# Altium footprint library LV_module.PcbLib: 20 footprints (part 1 of 2)
Each footprint in its own frame and in the unit in brackets; x right, y up, seen from the top. Pads: shape width x height; smd on the part's side, far side on the other; paste and mask are expansions set on the pad; w line width, h text height; cw(c..) or ccw(c..) is an arc to the next point about the centre after c.
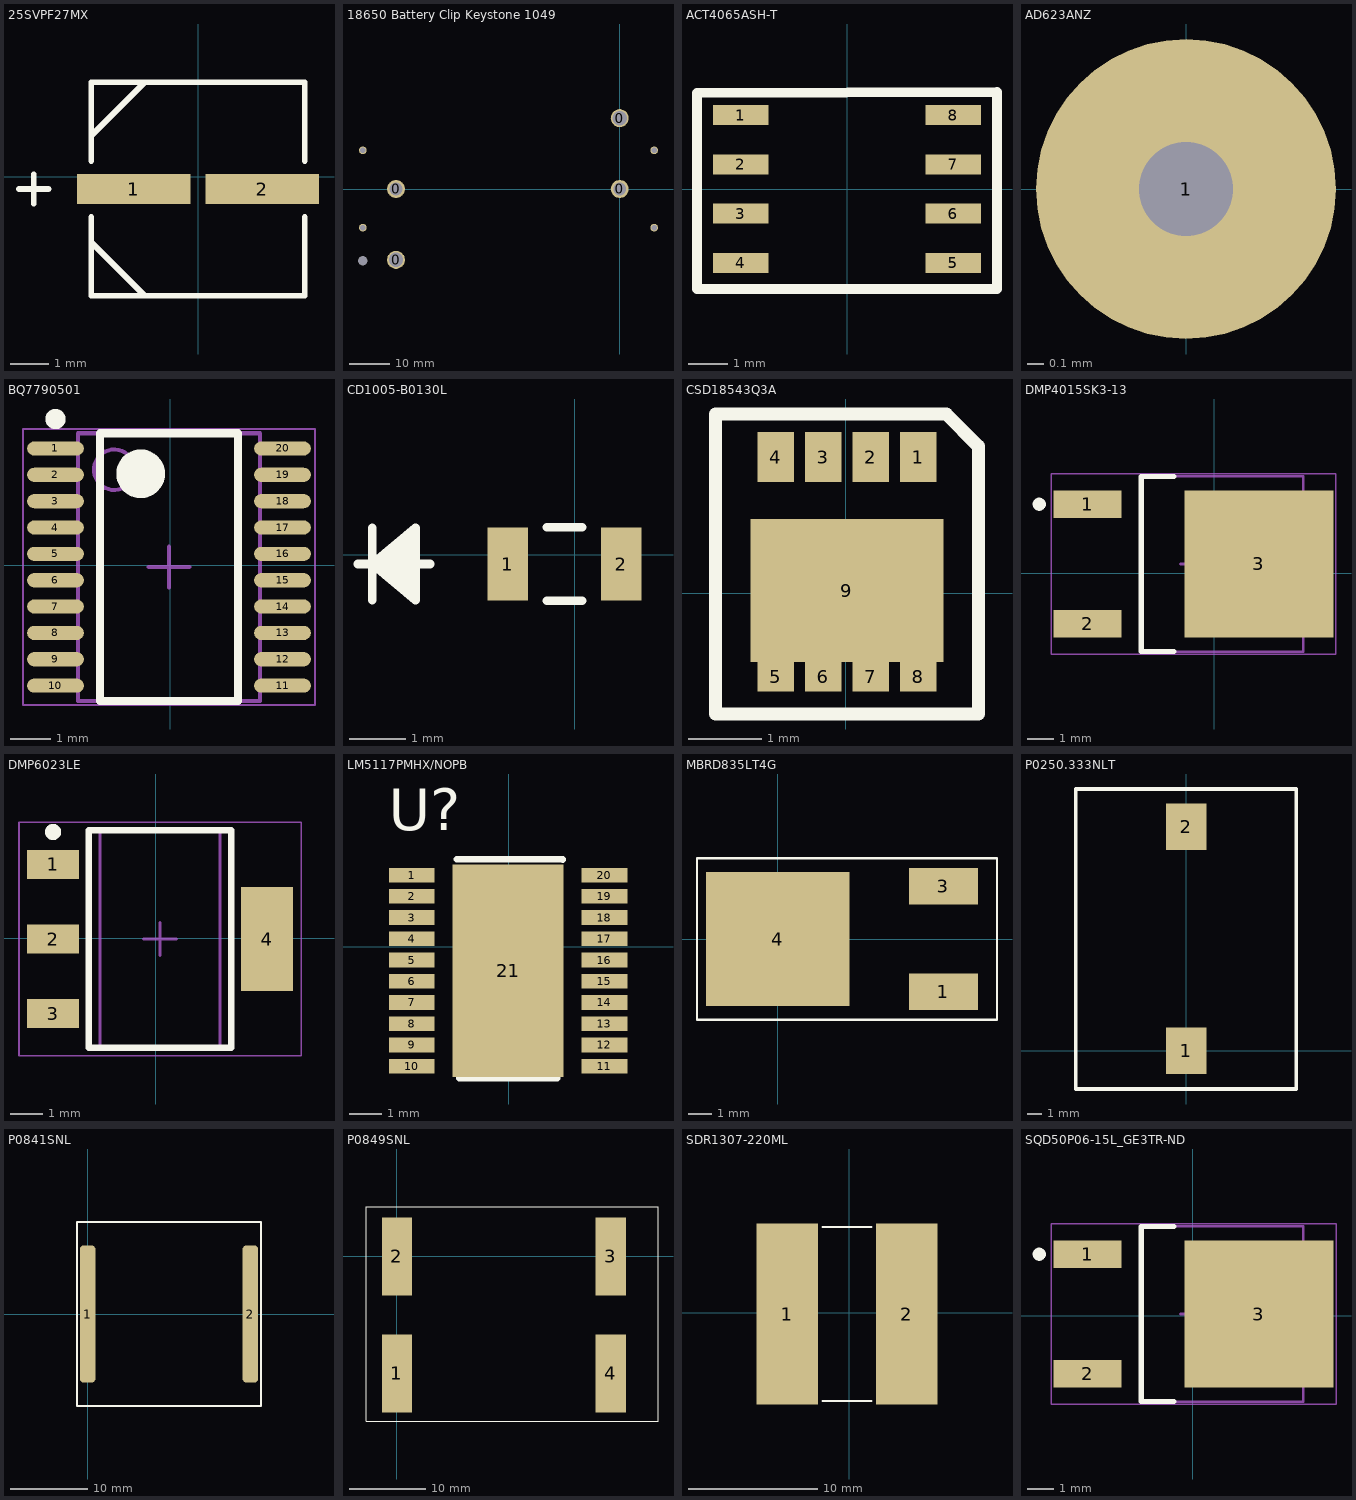
[diagram p0: the footprints below, top view; thin cyan lines are the x and y axes]

## 25SVPF27MX [mil] "Conductive Polymer Aluminum Solid Capacitors"
pads (2):
  rect 115.5x31 smd: 1(-65.64,-12.42) 2(64.86,-12.42)
Top Overlay:
  lines w6: -182.39,-12.42 -152.39,-12.42 ; -167.39,-27.42 -167.39,2.58 ; -108.89,-66.67 -54.64,-120.92 ; -108.89,-41.02 -108.89,-120.92 108.11,-120.92 108.11,-41.02 ; -108.89,16.18 -108.89,96.08 108.11,96.08 108.11,16.18 ; -108.89,41.83 -54.64,96.08

## 18650 Battery Clip Keystone 1049 [mil]
pads (9):
  round 175 hole 140: 0(-2175,-689.02) 0(0,689.02)
  round 175 hole 125: 0(-2175,0) 0(0,0)
  round 75 hole 52: 1+(-2498,-376) 1-(335,-376) 2+(335,376) 2-(-2498,376)
  round 0 hole 94: 4(-2498,-698)
3D body: height 585, standoff -181.1, extent -2605,-785 435,785

## ACT4065ASH-T [mm] "5V Output Switching Regulator, 2 Amps"
pads (8):
  rect 1.4x0.51 smd: 1(-2.7,1.875) 2(-2.7,0.625) 3(-2.7,-0.625) 4(-2.7,-1.875) 5(2.7,-1.875) 6(2.7,-0.625) 7(2.7,0.625) 8(2.7,1.875)
Top Overlay:
  lines w0.254: -3.81,-2.54 3.81,-2.54 3.81,2.469 -3.81,2.438 -3.81,-2.54

## AD623ANZ [mm] "Amplifier Circuit Strain Gauge"
pads (1):
  round 1.78 hole 0.56: 1(0,0)

## BQ7790501 [mm] "Ultra Low-Power Voltage, Current, Temperature,  and Open Wire Stackable Lithium-ion Battery Protector"
pads (20):
  oval 1.4x0.35 smd: 1(-2.825,2.875) 2(-2.825,2.225) 3(-2.825,1.575) 4(-2.825,0.925) 5(-2.825,0.275) 6(-2.825,-0.375) 7(-2.825,-1.025) 8(-2.825,-1.675) 9(-2.825,-2.325) 10(-2.825,-2.975) 11(2.775,-2.975) 12(2.775,-2.325) 13(2.775,-1.675) 14(2.775,-1.025) 15(2.775,-0.375) 16(2.775,0.275) 17(2.775,0.925) 18(2.775,1.575) 19(2.775,2.225) 20(2.775,2.875)
Top Overlay:
  circle w0.6: c-0.725,2.25 r0.3
  circle w0.25: c-2.825,3.6 r0.125
  lines w0.2: -1.725,-3.35 1.675,-3.35 1.675,3.25 -1.725,3.25 -1.725,-3.35
Mechanical 13:
  circle w0.1: c-1.375,2.35 r0.5
  lines w0.1: -2.275,-3.35 2.225,-3.35 2.225,3.25 -2.275,3.25 -2.275,-3.35
Mechanical 15:
  lines w0.05: -3.625,-3.45 3.575,-3.45 3.575,3.35 -3.625,3.35 -3.625,-3.45
  lines w0.1: -0.525,-0.05 0.475,-0.05 ; -0.025,-0.55 -0.025,0.45
3D body: height 1.2, standoff 0.05, extent -2.275,-3.35 2.225,3.25

## CD1005-B0130L [mil] "Schottky Barrier Chip Diode Series"
pads (2):
  rect 28x51 smd: 1(-46.56,-6.6) 2(32.44,-6.6)
Top Overlay:
  lines w6: -150.56,-6.6 -100.56,-6.6 ; -140.56,-31.6 -140.56,18.4 ; -110.56,-26.6 -140.56,-6.6 ; -110.56,-21.6 -140.56,-6.6 ; -110.56,-16.6 -140.56,-6.6 ; -110.56,-11.6 -140.56,-6.6 ; -110.56,-1.6 -140.56,-6.6 ; -110.56,3.4 -140.56,-6.6 ; -110.56,8.4 -140.56,-6.6 ; -110.56,13.4 -140.56,-6.6 ; -19.46,-32.1 5.34,-32.1 ; -19.46,18.9 5.34,18.9 ; -140.56,-6.6 -110.56,18.4 -110.56,-31.6 -140.56,-6.6

## CSD18543Q3A [mm] "60-V N-Channel NexFET™ Power MOSFET"
pads (9):
  rect 0.5x0.68 smd: 1(0.994,1.865) 2(0.344,1.865) 3(-0.306,1.865) 4(-0.956,1.865)
  rect 0.5x0.41 smd: 5(-0.956,-1.145) 6(-0.306,-1.145) 7(0.344,-1.145) 8(0.994,-1.145)
  rect 2.65x1.96 smd: 9(0.019,0.035)
Top Overlay:
  lines w0.178: -1.781,-1.655 0.029,-1.655 1.819,-1.655 1.819,0.555 1.819,2.015 1.379,2.455 0.089,2.455 -1.781,2.455 -1.781,0.495 -1.781,-1.655

## DMP4015SK3-13 [mm] "P-CHANNEL ENHANCEMENT MODE MOSFET"
pads (3):
  rect 2.6x1.06 smd: 1(-4.843,2.649) 2(-4.843,-1.923)
  rect 5.7x5.632 smd: 3(1.707,0.363)
Top Overlay:
  circle w0.25: c-6.693,2.649 r0.125
  lines w0.2: -1.543,-2.987 -2.793,-2.987 -2.793,3.713 -1.543,3.713
Mechanical 13:
  lines w0.1: -2.793,-2.987 -2.793,3.713 3.407,3.713 3.407,-2.987 -2.793,-2.987
Mechanical 15:
  lines w0.05: -6.243,-3.087 -6.243,3.813 4.657,3.813 4.657,-3.087 -6.243,-3.087
  lines w0.1: -1.293,0.363 -0.293,0.363 ; -0.793,-0.137 -0.793,0.863
3D body "DPAK229P991X239-3L.step": height 2.39, standoff 0, extent -5.423,-2.987 4.482,3.713

## DMP6023LE [mm] "60V P-CHANNEL ENHANCEMENT MODE MOSFET"
pads (4):
  rect 1.6x0.9 smd: 1(-3.173,2.275) 2(-3.173,-0.025) 3(-3.173,-2.325)
  rect 1.6x3.2 smd: 4(3.427,-0.025)
Top Overlay:
  circle w0.25: c-3.173,3.275 r0.125
  lines w0.2: -2.073,-3.375 -2.073,3.325 2.327,3.325 2.327,-3.375 -2.073,-3.375
Mechanical 13:
  lines w0.1: -1.723,-3.375 -1.723,3.325 1.977,3.325 1.977,-3.375 -1.723,-3.375
Mechanical 15:
  lines w0.05: -4.223,-3.625 -4.223,3.575 4.477,3.575 4.477,-3.625 -4.223,-3.625
  lines w0.1: -0.373,-0.025 0.627,-0.025 ; 0.127,-0.525 0.127,0.475
3D body: height 1.8, standoff 0.1, extent -1.723,-3.375 1.977,3.325

## LM5117PMHX/NOPB [mm] "Wide Input Range Synchronous Buck Controller with Analog Current Monitor"
pads (21):
  rect 1.4x0.45 smd: 1(-2.975,2.188) 2(-2.975,1.538) 3(-2.975,0.888) 4(-2.975,0.238) 5(-2.975,-0.412) 6(-2.975,-1.062) 7(-2.975,-1.712) 8(-2.975,-2.362) 9(-2.975,-3.012) 10(-2.975,-3.662) 11(2.925,-3.662) 12(2.925,-3.012) 13(2.925,-2.362) 14(2.925,-1.712) 15(2.925,-1.062) 16(2.925,-0.412) 17(2.925,0.238) 18(2.925,0.888) 19(2.925,1.538) 20(2.925,2.188)
  rect 3.4x6.5 smd: 21(-0.025,-0.737)
Top Overlay:
  lines w0.2: -1.602,2.671 1.651,2.667 ; -1.525,-4.037 1.475,-4.037
  text "U?" at -3.683,3.556 h1.27

## MBRD835LT4G [mm] "ON Semiconductor Shottky diode"
pads (3):
  rect 3x1.6 smd: 1(7.18,-2.285) 3(7.18,2.285)
  rect 6.2x5.8 smd: 4(0,0)
Top Overlay:
  lines w0.1: -3.5,-3.5 9.5,-3.5 9.5,3.5 -3.5,3.5 -3.5,-3.5

## P0250.333NLT [mm]
pads (2):
  rect 2.79x3.2 smd: 1(0,0) 2(0,15.37)
Top Overlay:
  lines w0.254: -7.575,-2.625 7.55,-2.625 7.55,17.975 -7.575,17.975 -7.575,-2.625

## P0841SNL [mil] "Pulse electronics inductor 22uH 5A 36 mOHM SMD"
pads (2):
  rrect50% 80x700 smd: 1(0,0) 2(830,0)
Top Overlay:
  lines w10: -55,-470 885,-470 885,470 -55,470 -55,-470

## P0849SNL [mm] "Pulse electronics inductor 33UH 5A 19 MOHM SMD"
pads (4):
  rect 3.94x10.16 smd: 1(0,-15.24) 2(0,0) 3(27.86,0) 4(27.86,-15.24)
Top Overlay:
  lines w0.1: -4,-21.5 34,-21.5 34,6.5 -4,6.5 -4,-21.5

## SDR1307-220ML [mil] "SMD Power Inductors"
pads (2):
  rect 187x551 smd: 1(-189.11,-3.16) 2(174.89,-3.16)
Top Overlay:
  lines w6: -82.51,-269.16 68.29,-269.16 ; -82.51,262.84 68.29,262.84

## SQD50P06-15L_GE3TR-ND [mm] "Automotive P-Channel 60 V (D-S) 175 °C MOSFET"
pads (3):
  rect 2.6x1.06 smd: 1(-4.018,2.349) 2(-4.018,-2.223)
  rect 5.7x5.632 smd: 3(2.532,0.063)
Top Overlay:
  circle w0.25: c-5.868,2.349 r0.125
  lines w0.2: -0.718,-3.287 -1.968,-3.287 -1.968,3.413 -0.718,3.413
Mechanical 13:
  lines w0.1: -1.968,-3.287 -1.968,3.413 4.232,3.413 4.232,-3.287 -1.968,-3.287
Mechanical 15:
  lines w0.05: -5.418,-3.387 -5.418,3.513 5.482,3.513 5.482,-3.387 -5.418,-3.387
  lines w0.1: -0.468,0.063 0.532,0.063 ; 0.032,-0.437 0.032,0.563
3D body "DPAK229P991X239-3L.step": height 2.39, standoff 0, extent -4.598,-3.287 5.307,3.413